# Altium schematic symbol library 2019-07-30_08-24-30.SchLib: 2 symbols
Pins are listed as number, name and electrical type; pins without a type are passive.

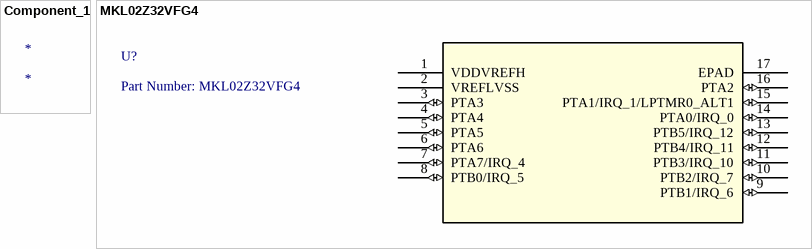
[diagram p0: symbols Component_1 to MKL02Z32VFG4]

## Component_1
designator *

## MKL02Z32VFG4
designator U?, comment Part Number: MKL02Z32VFG4
No Description Available; Vendor: NXP; CPU: ARM Cortex-M0+; Max_Frequency: 48; Flash_KB: 32; SRAM_KB: 4; Pin_Count: 16; Manufacturer_Part_Number: MKL02Z32VFG4; Package: QFN; Copyright: Copyright (C) 2016 Accelerated Designs. All rights reserved; RefDes: RefDes; Type: DEV; Value: Value
footprint QFN-16_3X3X0.65
pins: 1 VDDVREFH (power), 2 VREFLVSS (power), 3 PTA3 (io), 4 PTA4 (io), 5 PTA5 (io), 6 PTA6 (io), 7 PTA7/IRQ_4 (io), 8 PTB0/IRQ_5 (io), 9 PTB1/IRQ_6 (io), 10 PTB2/IRQ_7 (io), 11 PTB3/IRQ_10 (io), 12 PTB4/IRQ_11 (io), 13 PTB5/IRQ_12 (io), 14 PTA0/IRQ_0 (io), 15 PTA1/IRQ_1/LPTMR0_ALT1 (io), 16 PTA2 (io), 17 EPAD